# Altium schematic symbol library PowerMOSFET.SchLib: 6 symbols
Pins are listed as number, name and electrical type; pins without a type are passive.

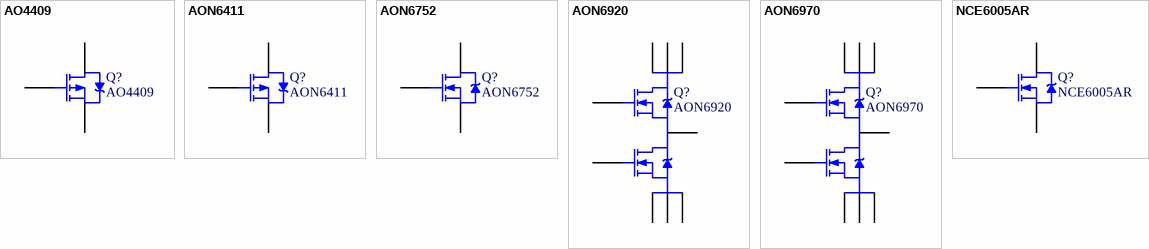
[diagram p0: symbols AO4409 to NCE6005AR]

## AO4409
designator Q?
30V P-Channel MOSFET
footprint PowerMOS-SO8 (SOP, 8-Leads, Body 4.90x3.90mm, Pitch 1.27mm, IPC Medium Density)
pins: D, G, S

## AON6411
designator Q?
20V P-Channel MOSFET
footprint DFN5x6_8L_EP1_P
pins: D, G, S

## AON6752
designator Q?
30V N-Channel AlphaMOS
footprint DFN5x6_8L_EP1_P
pins: D, G, S

## AON6920
designator Q?
30V Dual Asymmetric N-Channel MOSFET
footprint DFN5x6A_8L_EP2_S
pins: D1, D1, D1, G1, G2, S1/D2, S2, S2, S2

## AON6970
designator Q?
30V Dual Asymmetric N-Channel AlphaMOS
footprint DFN5x6D_8L_EP2_S
pins: D1, D1, D1, G1, G2, S1/D2, S2, S2, S2

## NCE6005AR
designator Q?
NCE N-Channel Enhancement Mode Power MOSFET
footprint NCE6005AR (SOT-223/SC-73; 4 Leads; Body 6.7 x 7.3 mm, inc. leads (LxW max))
pins: 1 G, 2 D, 3 S